# Altium footprint library transistor-small-signal.PCBLIB: 107 footprints (part 6 of 7)
Each footprint in its own frame and in the unit in brackets; x right, y up, seen from the top. Pads: shape width x height; smd on the part's side, far side on the other; paste and mask are expansions set on the pad; w line width, h text height; cw(c..) or ccw(c..) is an arc to the next point about the centre after c.
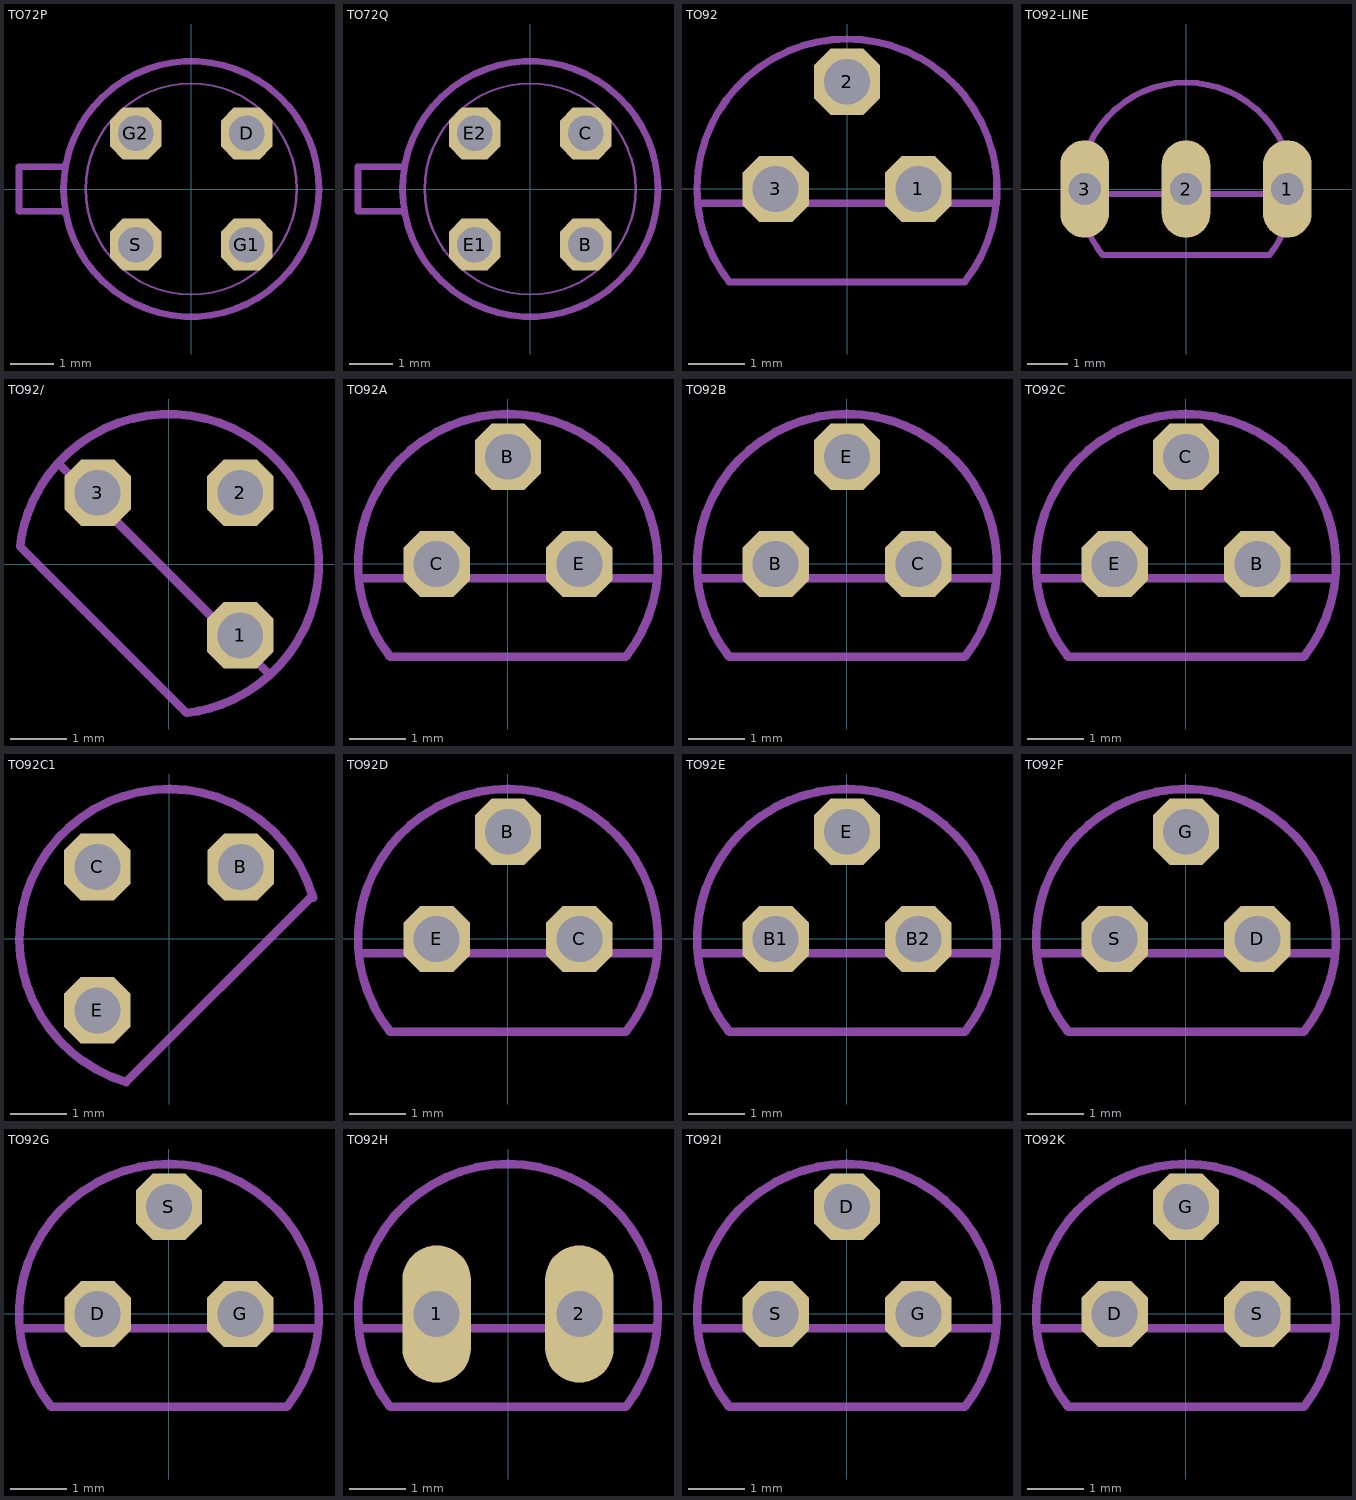
[diagram p5: the footprints below, top view; thin cyan lines are the x and y axes]

## TO72P [mil]
pads (4):
  oct 46.48x46.48 hole 32: D(50,50) G1(50,-50) G2(-50,50) S(-50,-50)
Mechanical 2:
  circle w6: c0,0 r115
  lines w2: -87.68,-36.57 cw(c0,0) -87.68,36.57 ; -36.57,-87.68 ccw(c0,0) 36.57,-87.68 ; -36.57,87.68 cw(c0,0) 36.57,87.68 ; 87.68,-36.57 ccw(c0,0) 87.68,36.57
  lines w6: -114,-20 -155,-20 -155,20 -114,20
Mechanical 18:
  lines w2: -87.68,-36.57 ccw(c0,0) -36.57,-87.68 ; -87.68,36.57 cw(c0,0) -36.57,87.68 ; 36.57,-87.68 ccw(c0,0) 87.68,-36.57 ; 36.57,87.68 cw(c0,0) 87.68,36.57

## TO72Q [mil]
pads (4):
  oct 46.48x46.48 hole 32: B(50,-50) C(50,50) E1(-50,-50) E2(-50,50)
Mechanical 2:
  circle w6: c0,0 r115
  lines w2: -87.68,-36.57 cw(c0,0) -87.68,36.57 ; -36.57,-87.68 ccw(c0,0) 36.57,-87.68 ; -36.57,87.68 cw(c0,0) 36.57,87.68 ; 87.68,-36.57 ccw(c0,0) 87.68,36.57
  lines w6: -114,-20 -155,-20 -155,20 -114,20
Mechanical 18:
  lines w2: -87.68,-36.57 ccw(c0,0) -36.57,-87.68 ; -87.68,36.57 cw(c0,0) -36.57,87.68 ; 36.57,-87.68 ccw(c0,0) 87.68,-36.57 ; 36.57,87.68 cw(c0,0) 87.68,36.57

## TO92 [mil]
pads (3):
  oct 46.48x46.48 hole 32: 1(50,0) 2(0,75) 3(-50,0)
Mechanical 2:
  lines w5: -88.73,-10 -104.52,-10 ; -30.96,100.33 ccw(c0,0) -104.52,-10 ; -11.27,-10 11.27,-10 ; 30.96,100.33 cw(c0,0) 82.46,-65 -82.46,-65 cw(c0,0) -104.52,-10 ; 88.73,-10 104.52,-10
Mechanical 18:
  lines w5: -88.73,-10 -11.27,-10 ; -30.96,100.33 cw(c0,-0.02) 30.96,100.33 ; 11.27,-10 88.73,-10

## TO92-LINE [mil]
pads (3):
  oval 48x96 hole 32: 1(100,0) 2(0,0) 3(-100,0)
Mechanical 2:
  lines w6: -95.02,-44.72 ccw(c-0.02,0.01) -82.48,-65 82.48,-65 ccw(c0.01,0) 95.46,-43.77 ; -95,44.72 cw(c0,0) 95,44.72 ; -55.28,-5 -44.72,-5 ; 44.72,-5 55.28,-5
Mechanical 18:
  lines w6: -95,-44.72 cw(c0,0) -104.88,-5 ; -95,44.72 ccw(c0,0) -104.88,-5 ; -55.28,-5 -104.88,-5 ; -44.72,-5 44.72,-5 ; 55.28,-5 104.88,-5 ; 95,-44.72 ccw(c0,0) 104.88,-5 ; 95,44.72 cw(c0,0) 104.88,-5

## TO92/ [mil]
pads (3):
  oct 46.48x46.48 hole 32: 1(50,-50) 2(50,50) 3(-50,50)
Mechanical 2:
  lines w6: -94.77,45.27 ccw(c-0.01,0.03) -104.29,12.36 12.36,-104.29 ccw(c0.03,-0.01) 45.27,-94.77 ; -45.25,94.75 cw(c0,0.01) 45.25,94.75 ; -21.93,14.84 14.84,-21.93 ; 94.75,-45.25 ccw(c0.01,0) 94.75,45.25
Mechanical 18:
  lines w6: -94.75,45.25 cw(c0.01,-0.01) -45.25,94.75 ; -77.72,70.63 -21.93,14.84 ; 14.84,-21.93 70.63,-77.72 ; 45.25,-94.75 ccw(c-0.01,0.01) 94.75,-45.25 ; 45.25,94.75 cw(c-0.01,-0.01) 94.75,45.25

## TO92A [mil]
pads (3):
  oct 46.48x46.48 hole 32: B(0,75) C(-50,0) E(50,0)
Mechanical 2:
  lines w6: -104.53,-10 -88.74,-10 ; -82.48,-65 82.48,-65 ccw(c0.02,0) 30.98,100.33 ; -82.46,-65 cw(c0,0) -30.96,100.33 ; -11.26,-10 11.26,-10 ; 88.74,-10 104.53,-10
Mechanical 18:
  lines w6: -88.74,-10 -11.26,-10 ; -30.96,100.33 cw(c0,-0.02) 30.96,100.33 ; 11.26,-10 88.74,-10

## TO92B [mil]
pads (3):
  oct 46.48x46.48 hole 32: B(-50,0) C(50,0) E(0,75)
Mechanical 2:
  lines w6: -104.53,-10 -88.74,-10 ; -82.48,-65 82.48,-65 ccw(c0.02,0) 30.98,100.33 ; -82.46,-65 cw(c0,0) -30.96,100.33 ; -11.26,-10 11.26,-10 ; 88.74,-10 104.53,-10
Mechanical 18:
  lines w6: -88.74,-10 -11.26,-10 ; -30.96,100.33 cw(c0,-0.02) 30.96,100.33 ; 11.26,-10 88.74,-10

## TO92C [mil]
pads (3):
  oct 46.48x46.48 hole 32: B(50,0) C(0,75) E(-50,0)
Mechanical 2:
  lines w6: -104.53,-10 -88.74,-10 ; -82.48,-65 82.48,-65 ccw(c0.02,0) 30.98,100.33 ; -82.46,-65 cw(c0,0) -30.96,100.33 ; -11.26,-10 11.26,-10 ; 88.74,-10 104.53,-10
Mechanical 18:
  lines w6: -88.74,-10 -11.26,-10 ; -30.96,100.33 cw(c0,-0.02) 30.96,100.33 ; 11.26,-10 88.74,-10

## TO92C1 [mil]
pads (3):
  oct 46.48x46.48 hole 32: B(50,50) C(-50,50) E(-50,-50)
Mechanical 2:
  lines w6: 100.39,28.68 ccw(c-0.08,-0.29) 100,30 ; 100,30 ccw(c0,0) -30,-100 100,30

## TO92D [mil]
pads (3):
  oct 46.48x46.48 hole 32: B(0,75) C(50,0) E(-50,0)
Mechanical 2:
  lines w6: -104.53,-10 -88.74,-10 ; -82.48,-65 82.48,-65 ccw(c0.02,0) 30.98,100.33 ; -82.46,-65 cw(c0,0) -30.96,100.33 ; -11.26,-10 11.26,-10 ; 88.74,-10 104.53,-10
Mechanical 18:
  lines w6: -88.74,-10 -11.26,-10 ; -30.96,100.33 cw(c0,-0.02) 30.96,100.33 ; 11.26,-10 88.74,-10

## TO92E [mil]
pads (3):
  oct 46.48x46.48 hole 32: B1(-50,0) B2(50,0) E(0,75)
Mechanical 2:
  lines w6: -104.53,-10 -88.74,-10 ; -82.48,-65 82.48,-65 ccw(c0.02,0) 30.98,100.33 ; -82.46,-65 cw(c0,0) -30.96,100.33 ; -11.26,-10 11.26,-10 ; 88.74,-10 104.53,-10
Mechanical 18:
  lines w6: -88.74,-10 -11.26,-10 ; -30.96,100.33 cw(c0,-0.02) 30.96,100.33 ; 11.26,-10 88.74,-10

## TO92F [mil]
pads (3):
  oct 46.48x46.48 hole 32: D(50,0) G(0,75) S(-50,0)
Mechanical 2:
  lines w6: -104.53,-10 -88.74,-10 ; -82.48,-65 82.48,-65 ccw(c0.02,0) 30.98,100.33 ; -82.46,-65 cw(c0,0) -30.96,100.33 ; -11.26,-10 11.26,-10 ; 88.74,-10 104.53,-10
Mechanical 18:
  lines w6: -88.74,-10 -11.26,-10 ; -30.96,100.33 cw(c0,-0.02) 30.96,100.33 ; 11.26,-10 88.74,-10

## TO92G [mil]
pads (3):
  oct 46.48x46.48 hole 32: D(-50,0) G(50,0) S(0,75)
Mechanical 2:
  lines w6: -104.53,-10 -88.74,-10 ; -82.48,-65 82.48,-65 ccw(c0.02,0) 30.98,100.33 ; -82.46,-65 cw(c0,0) -30.96,100.33 ; -11.26,-10 11.26,-10 ; 88.74,-10 104.53,-10
Mechanical 18:
  lines w6: -88.74,-10 -11.26,-10 ; -30.96,100.33 cw(c0,-0.02) 30.96,100.33 ; 11.26,-10 88.74,-10

## TO92H [mil]
pads (2):
  oval 48x96 hole 32: 1(-50,0) 2(50,0)
Mechanical 2:
  lines w6: -104.53,-10 -88.74,-10 ; -11.26,-10 11.26,-10 ; 82.48,-65 82.44,-65 ; 88.74,-10 104.53,-10 ; 82.44,-65 -82.48,-65 cw(c-0.02,0) 82.44,-65
Mechanical 18:
  lines w6: -88.74,-10 -11.26,-10 ; 11.26,-10 88.74,-10

## TO92I [mil]
pads (3):
  oct 46.48x46.48 hole 32: D(0,75) G(50,0) S(-50,0)
Mechanical 2:
  lines w6: -104.53,-10 -88.74,-10 ; -82.48,-65 82.48,-65 ccw(c0.02,0) 30.98,100.33 ; -82.46,-65 cw(c0,0) -30.96,100.33 ; -11.26,-10 11.26,-10 ; 88.74,-10 104.53,-10
Mechanical 18:
  lines w6: -88.74,-10 -11.26,-10 ; -30.96,100.33 cw(c0,-0.02) 30.96,100.33 ; 11.26,-10 88.74,-10

## TO92K [mil]
pads (3):
  oct 46.48x46.48 hole 32: D(-50,0) G(0,75) S(50,0)
Mechanical 2:
  lines w6: -104.53,-10 -88.74,-10 ; -82.48,-65 82.48,-65 ccw(c0.02,0) 30.98,100.33 ; -82.46,-65 cw(c0,0) -30.96,100.33 ; -11.26,-10 11.26,-10 ; 88.74,-10 104.53,-10
Mechanical 18:
  lines w6: -88.74,-10 -11.26,-10 ; -30.96,100.33 cw(c0,-0.02) 30.96,100.33 ; 11.26,-10 88.74,-10